# Altium footprint library 05-01891R2.1T.PcbLib: 18 footprints (part 2 of 2)
Each footprint in its own frame and in the unit in brackets; x right, y up, seen from the top. Pads: shape width x height; smd on the part's side, far side on the other; paste and mask are expansions set on the pad; w line width, h text height; cw(c..) or ccw(c..) is an arc to the next point about the centre after c.
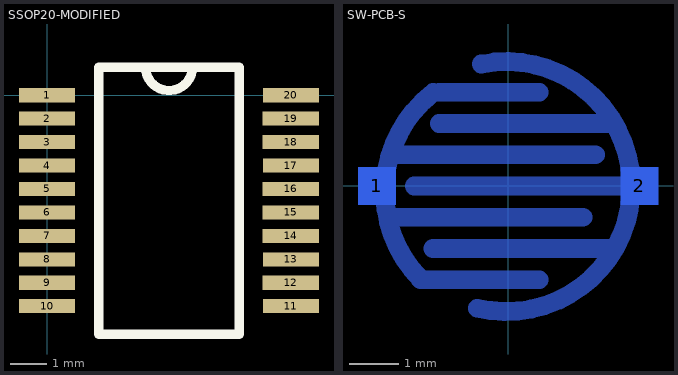
[diagram p1: the footprints below, top view; thin cyan lines are the x and y axes]

## SSOP20-MODIFIED [mil]
pads (20):
  rect 60x15 smd: 1(0,0) 2(0,-25) 3(0,-50) 4(0,-75) 5(0,-100) 6(0,-125) 7(0,-150) 8(0,-175) 9(0,-200) 10(0,-225) 11(260,-225) 12(260,-200) 13(260,-175) 14(260,-150) 15(260,-125) 16(260,-100) 17(260,-75) 18(260,-50) 19(260,-25) 20(260,0)
Top Overlay:
  lines w10: 105,30 ccw(c130,30) 155,30 ; 55,-255 205,-255 205,30 55,30 55,-255

## SW-PCB-S [mil]
pads (2):
  rect 30x30 smd far side: 1(-105,0) 2(105,0)
Bottom Layer:
  lines w15: -95,-25 60,-25 ; -90,25 70,25 ; -75,0 95,0 ; -70,-75 25,-75 ; -69.75,-74.79 cw(c1.33,-4.45) -59.82,74.67 ; -60,-50 85,-50 ; -55,50 85,50 ; -55,75 25,75 ; -24.51,-97.83 ccw(c-1.33,-0.55) -21.44,97.41
Bottom Overlay:
  circle w10: c1,-1 r100
Bottom Solder:
  region: 0,-95 35,-90 65,-70 85,-45 95,0 90,30 70,65 40,85 0,95 -35,85 -50,75 -65,65 -85,40 -95,0 -85,-40 -65,-70 -35,-90